# Altium schematic symbol library MergenElektronik_Connectors_IDCConnectors.SchLib: 1 symbol
Pins are listed as number, name and electrical type; pins without a type are passive.

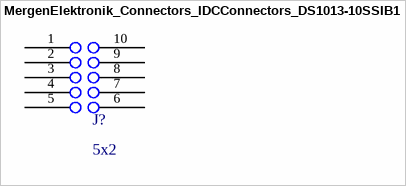
[diagram p0: symbol MergenElektronik_Connectors_IDCConnectors_DS1013-10SSIB1]

## MergenElektronik_Connectors_IDCConnectors_DS1013-10SSIB1
designator J?, comment 5x2
Mergen Elektronik - Connectors - IDC Connectors - DS1013-10SSIB1; Manufacturer: CONNFLY; Voltage Rating: 500V; Current Rating: 3A; Manufacturer Number: DS1013-10SSIB1; Model: IDC Connector; Mounting Type: THT; Temperature: -40°C up to+105°C; Value: DS1013-10SSIB1; Package: DS1013-10SSIB1; Özdisan Number: DS1013-10SSIB1
footprint MergenElektronik_Connectors_IDCConnectors_DS1013-10SSIB1 (DS1013-10SSIB1)
pins: 1, 2, 3, 4, 5, 6, 7, 8, 9, 10